# Altium footprint library STM32G031_SOIC8_Dev_Board.PcbLib: 17 footprints (part 2 of 2)
Each footprint in its own frame and in the unit in brackets; x right, y up, seen from the top. Pads: shape width x height; smd on the part's side, far side on the other; paste and mask are expansions set on the pad; w line width, h text height; cw(c..) or ccw(c..) is an arc to the next point about the centre after c.
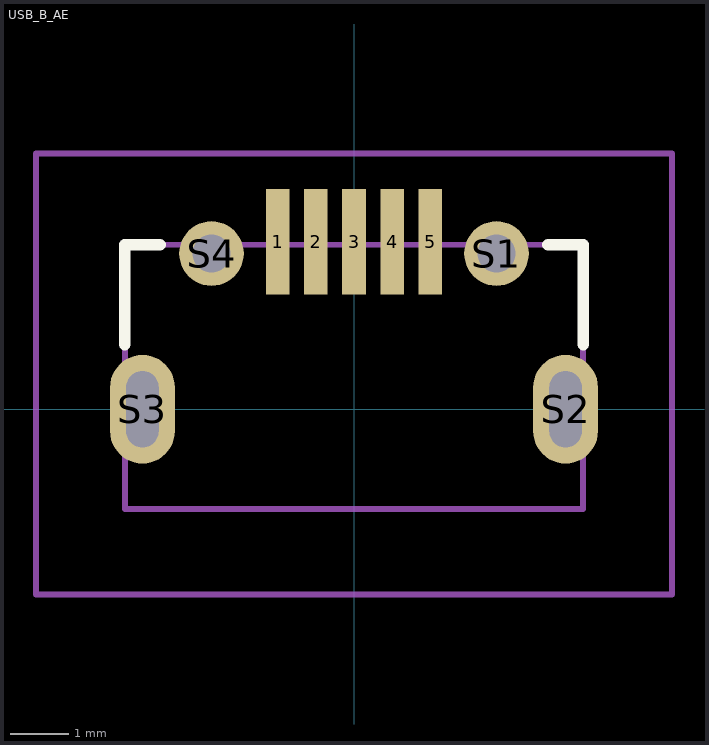
[diagram p1: the footprint, top view; thin cyan lines are the x and y axes]

## USB_B_AE [mm]
pads (9):
  rect 0.4x1.8 smd mask+0.125: 1(-1.3,2.85) 2(-0.65,2.85) 3(0,2.85) 4(0.65,2.85) 5(1.3,2.85)
  round 1.1 hole 0.65: S1(2.425,2.65) S4(-2.425,2.65)
  oval 1.1x1.85 hole 0.55 slot 1.3 at 90 deg: S2(3.6,0) S3(-3.6,0)
Top Overlay:
  lines w0.2: -3.9,1.1 -3.9,2.8 -3.3,2.8 ; 3.3,2.8 3.9,2.8 3.9,1.1
Mechanical 13:
  lines w0.1: -3.9,-1.7 3.9,-1.7 3.9,2.8 -3.9,2.8 -3.9,-1.7
Mechanical 15:
  lines w0.1: -5.415,-3.15 5.415,-3.15 5.415,4.35 -5.415,4.35 -5.415,-3.15
3D body "USB3075-30-A.stp": height 2.49, standoff -1.17, extent -3.9,-2.765 3.9,2.775